# EAGLE library part MOLEX-47346-0001 (library wearloc)
MICRO USB B, BOTTOM MOUNT
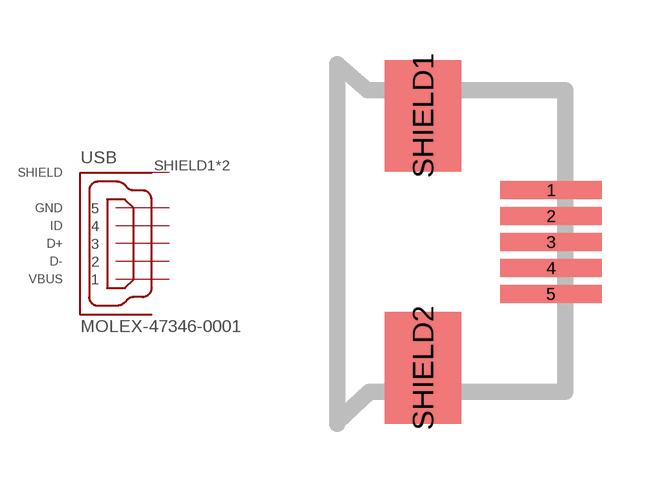
[diagram p4: symbol with the pads of MOLEX-47364-0001; footprint MOLEX-47364-0001]

Designator prefix USB

## MOLEX-47346-0001  [MOLEX-47364-0001]
1  1
2  2
3  3
4  4
5  5
SHIELD1  SHIELD
SHIELD2  SHIELD

## Footprint MOLEX-47364-0001 (pad centres in mm)
smd 2.54 x 0.45: 1 3.2,1.3; 2 3.2,0.65; 3 3.2,0; 4 3.2,-0.65; 5 3.2,-1.3
smd 1.905 x 2.794: SHIELD1 0,3.156; SHIELD2 0,-3.156